# Altium footprint library RLC.PcbLib: 27 footprints (part 1 of 2)
Each footprint in its own frame and in the unit in brackets; x right, y up, seen from the top. Pads: shape width x height; smd on the part's side, far side on the other; paste and mask are expansions set on the pad; w line width, h text height; cw(c..) or ccw(c..) is an arc to the next point about the centre after c.
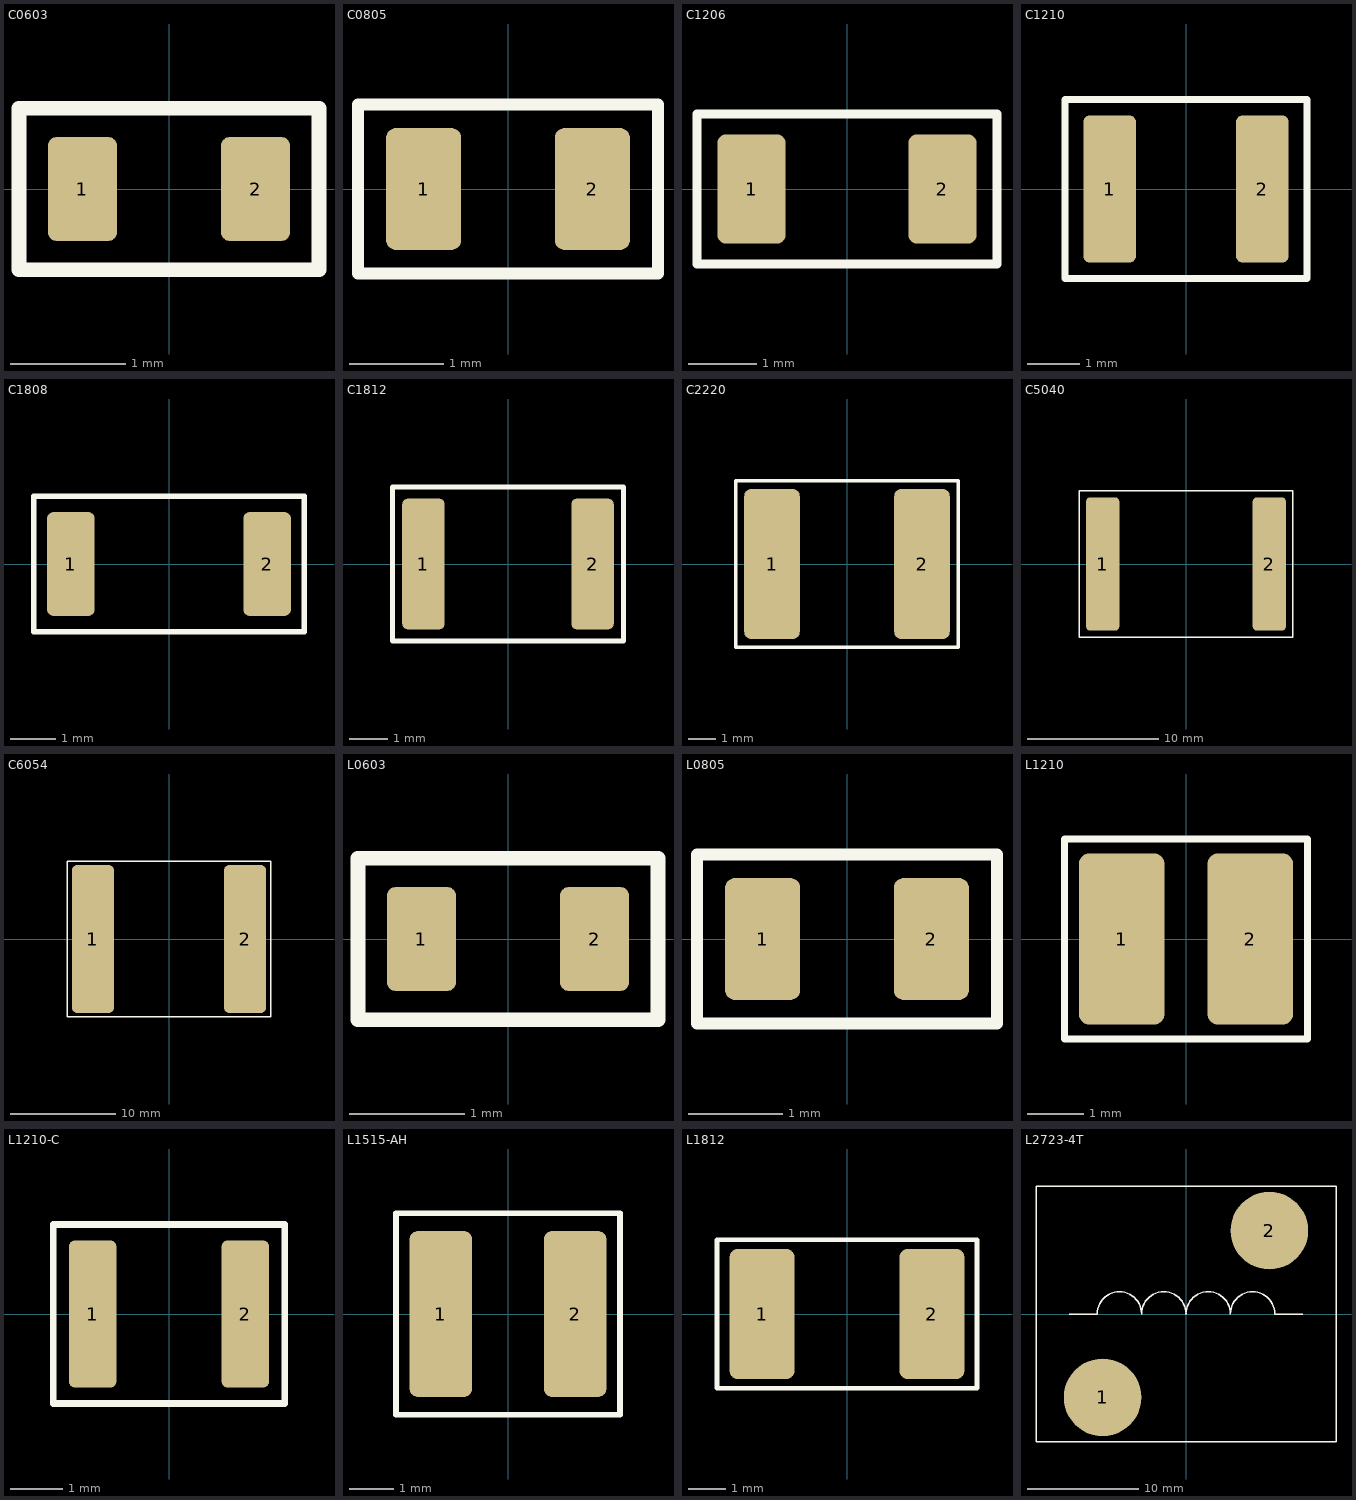
[diagram p0: the footprints below, top view; thin cyan lines are the x and y axes]

## C0603 [mm] "SMT CAPACITOR 0603"
height 1.25
pads (2):
  rrect25% 0.6x0.9 smd: 1(-0.75,0) 2(0.75,0)
Top Overlay:
  lines w0.127: -1.3,-0.7 1.3,-0.7 1.3,0.7 -1.3,0.7 -1.3,-0.7
3D body "C0603.STEP": height 0.6, standoff 0, extent -0.8,-0.4 0.8,0.4

## C0805 [mm] "Ceramic capacitor 0805"
pads (2):
  rrect25% 0.8x1.3 smd: 1(-0.9,0) 2(0.9,0)
Top Overlay:
  lines w0.127: -1.6,-0.9 1.6,-0.9 1.6,0.9 -1.6,0.9 -1.6,-0.9
3D body "C0805.STEP": height 0.8, standoff 0, extent -1,-0.625 1,0.625

## C1206 [mm] "SMT CAPACITOR 1206"
height 1.25
pads (2):
  rrect25% 1x1.6 smd: 1(-1.4,0) 2(1.4,0)
Top Overlay:
  lines w0.127: -2.2,-1.1 -2.2,1.1 2.2,1.1 2.2,-1.1 -2.2,-1.1
3D body "C1206.STEP": height 0.94, standoff 0, extent -1.6,-0.8 1.6,0.8

## C1210 [mm] "SMT CAPACITOR 1210"
pads (2):
  rrect25% 1x2.8 smd: 1(-1.45,0) 2(1.45,0)
Top Overlay:
  lines w0.127: -2.3,-1.7 2.3,-1.7 2.3,1.7 -2.3,1.7 -2.3,-1.7
3D body "C1210.STEP": height 1.3, standoff 0, extent -1.6,-1.25 1.6,1.25

## C1808 [mm] "SMT CAPACITOR 1808"
pads (2):
  rrect25% 1.05x2.3 smd: 1(-2.175,0) 2(2.175,0)
Top Overlay:
  lines w0.127: -3,-1.5 -3,1.5 3,1.5 3,-1.5 -3,-1.5
3D body "C1808.STEP": height 1.35, standoff 0, extent -2.3,-1 2.3,1

## C1812 [mm] "SMT CAPACITOR 1812"
pads (2):
  rrect25% 1.1x3.4 smd: 1(-2.2,0) 2(2.2,0)
Top Overlay:
  lines w0.127: -3,-2 3,-2 3,2 -3,2 -3,-2
3D body "C1812.STEP": height 1.6, standoff 0, extent -2.25,-1.6 2.25,1.6

## C2220 [mm] "SMT CAPACITOR 2220"
pads (2):
  rrect25% 2x5.4 smd: 1(-2.7,0) 2(2.7,0)
Top Overlay:
  lines w0.127: -4,-3 -4,3 4,3 4,-3 -4,-3
3D body "C2220.STEP": height 2.3, standoff 0, extent -2.85,-2.5 2.85,2.5

## C5040 [mm] "SMT CAPACITOR 5040"
pads (2):
  rrect25% 2.54x10.16 smd: 1(-6.35,0) 2(6.35,0)
Top Overlay:
  lines w0.127: -8.128,-5.588 -8.128,5.588 8.128,5.588 8.128,-5.588 -8.128,-5.588

## C6054 [mm] "SMT CAPACITOR 6054"
pads (2):
  rrect25% 4x14 smd: 1(-7.2,0) 2(7.2,0)
Top Overlay:
  lines w0.127: -9.652,-7.366 9.652,-7.366 9.652,7.366 -9.652,7.366 -9.652,-7.366
3D body "C6054.stp": height 6, standoff 0, extent -7.65,-6.85 7.65,6.85

## L0603 [mm] "SMT INDUCTOR 0603"
pads (2):
  rrect25% 0.6x0.9 smd: 1(-0.75,0) 2(0.75,0)
Top Overlay:
  lines w0.127: -1.3,-0.7 -1.3,0.7 1.3,0.7 1.3,-0.7 -1.3,-0.7
3D body "L0603.STEP": height 0.8, standoff 0, extent -0.8,-0.4 0.8,0.4

## L0805 [mm] "SMT INDUCTOR 0805"
height 1.25
pads (2):
  rrect25% 0.8x1.3 smd: 1(-0.9,0) 2(0.9,0)
Top Overlay:
  lines w0.127: -1.6,-0.9 -1.6,0.9 1.6,0.9 1.6,-0.9 -1.6,-0.9
3D body "L0805.STEP": height 0.95, standoff 0, extent -1,-0.6 1,0.6

## L1210 [mil] "SMT INDUCTOR 1210"
height 1.25
pads (2):
  rrect25% 60x120 smd: 1(-45,0) 2(45,0)
Top Overlay:
  lines w5: -85,-70 85,-70 85,70 -85,70 -85,-70
3D body "L1210.STEP": height 78.74, standoff -0.04, extent -63.02,-53.33 63.04,53.34

## L1210-C [mm] "SMT INDUCTOR 1210"
pads (2):
  rrect25% 0.9x2.8 smd: 1(-1.45,0) 2(1.45,0)
Top Overlay:
  lines w0.127: -2.2,-1.7 -2.2,1.7 2.2,1.7 2.2,-1.7 -2.2,-1.7
3D body "L1210-C.STEP": height 1.35, standoff 0, extent -1.6,-1.25 1.6,1.25

## L1515-AH [mm] "SMT INDUCTOR 1515 - 4mm x 4mm"
pads (2):
  rrect25% 1.4x3.7 smd: 1(-1.5,0) 2(1.5,0)
Top Overlay:
  lines w0.127: -2.5,-2.25 2.5,-2.25 2.5,2.25 -2.5,2.25 -2.5,-2.25
3D body "L1515AH.STEP": height 1.8, standoff 0, extent -1.975,-1.975 1.975,1.975

## L1812 [mm] "SMT INDUCTOR 1812"
pads (2):
  rrect25% 1.75x3.5 smd: 1(-2.286,0) 2(2.286,0)
Top Overlay:
  lines w0.127: -3.5,-2 3.5,-2 3.5,2 -3.5,2 -3.5,-2
3D body "L1812.STEP": height 1.75, standoff 0, extent -2.25,-1.6 2.25,1.6

## L2723-4T [mm] "SMT INDUCTOR 2723 - 4T"
pads (2):
  round 7 smd: 1(-7.5,-7.5) 2(7.5,7.5)
Top Overlay:
  lines w0.127: -10.5,0 -8,0 cw(c-6,0) -4,0 cw(c-2,0) 0,0 cw(c2,0) 4,0 cw(c6,0) 8,0 10.5,0 ; -13.5,-11.5 -13.5,11.5 13.5,11.5 13.5,-11.5 -13.5,-11.5